# Altium schematic symbol library Lib_Global.SchLib: 32 symbols
Pins are listed as number, name and electrical type; pins without a type are passive.

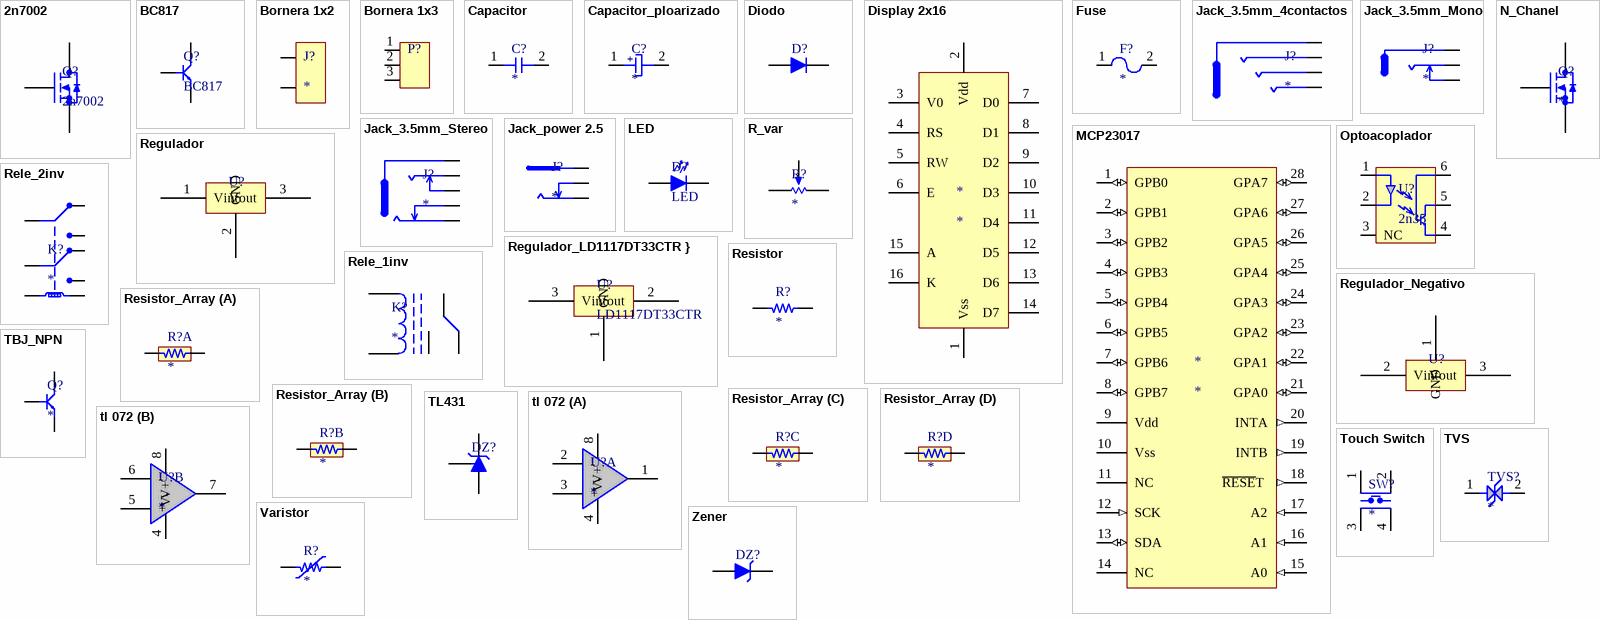
[diagram p0: symbols 2n7002 to Zener]

## 2n7002
designator Q?
footprint SOT-23
pins: 1 G, 2 S, 3 D

## BC817
designator Q?
footprint SOT-23
pins: 1 B, 2 E, 3 C

## Bornera 1x2
designator J?
footprint Bornera enchufable 1x2 90° P5.08mm
pins: 1, 2

## Bornera 1x3
designator P?
footprint Bornera enchufable 1x3 90° P5.08mm
pins: 1, 2, 3

## Capacitor
designator C?
footprint C_0805
footprint C_ceramico_R5.7_P4
footprint Capa_P5
pins: 1, 2

## Capacitor_ploarizado
designator C?
footprint Capa_Elec_D8.2_P3.2
footprint Capa_Elec_D5_P2
pins: 1, 2
text: +

## Diodo
designator D?
footprint MELF-SOD80C
pins: 1 A, 2 K

## Display 2x16
designator *
pins: 1 Vss, 2 Vdd, 3 V0, 4 RS, 5 RW, 6 E, 7 D0, 8 D1, 9 D2, 10 D3, 11 D4, 12 D5, 13 D6, 14 D7, 15 A, 16 K

## Fuse
designator F?
footprint Fuse_R8.3_P5.08
pins: 1, 2

## Jack_3.5mm_4contactos
designator J?
pins: 1, 2, 3, 4

## Jack_3.5mm_Mono
designator J?
pins: 1, 2, 3

## Jack_3.5mm_Stereo
designator J?
footprint Jack 3,5mm_Stereo
pins: 1, 2, 3, 4, 5

## Jack_power 2.5
designator J?
footprint Plug
pins: 1, 2, 3

## LED
designator D?
footprint LED_0805
pins: 1 A, 2 K

## MCP23017
designator *
pins: 1 GPB0 (io), 2 GPB1 (io), 3 GPB2 (io), 4 GPB3 (io), 5 GPB4 (io), 6 GPB5 (io), 7 GPB6 (io), 8 GPB7 (io), 9 Vdd (power), 10 Vss (power), 11 NC, 12 SCK (in), 13 SDA (io), 14 NC, 15 A0 (in), 16 A1 (in), 17 A2 (in), 18 ~{RESE}T  (out), 19 INTB (out), 20 INTA (out), 21 GPA0 (io), 22 GPA1 (io), 23 GPA2 (io), 24 GPA3 (io), 25 GPA4 (io), 26 GPA5 (io), 27 GPA6 (io), 28 GPA7 (io)

## N_Chanel
designator Q?
footprint TO-92
footprint SOT-23
pins: 1 S, 2 G, 3 D

## Optoacoplador
designator U?, comment 2n35
footprint dip6-smd
pins: 1, 2, 3 NC, 4, 5, 6

## R_var
designator R?
Resistor variable
pins: 1, 2, 3

## Regulador
designator U?
footprint SOT-223
footprint TO220
pins: 1 Vint, 2 GND, 3 Vout

## Regulador_LD1117DT33CTR }
designator U?, comment LD1117DT33CTR
footprint TO-252-3
pins: 1 GND, 2 Vout, 3 Vint

## Regulador_Negativo
designator U?
footprint SOT-223
footprint TO220
pins: 1 GND, 2 Vint, 3 Vout

## Rele_1inv
designator K?
footprint Rele_1inv_19*15*15.5
pins: 1, 2, 3, 4, 5

## Rele_2inv
designator K?
footprint Rele_2inv_10*20*11
pins: 1, 4 Com1, 6 NC1, 8 NO1, 9 NO2, 11 NC2, 13 Com2, 16

## Resistor
designator R?
footprint Res_P10_1/4W
footprint R_0805
footprint Resistencia P15.24mm
pins: 1, 2

## Resistor_Array
designator R?
part A pins: 1, 2
part B pins: 3, 4
part C pins: 5, 6
part D pins: 7, 8

## TBJ_NPN
designator Q?
footprint TO220_conDis
footprint TO220
footprint TO-92
pins: 1 E, 2 B, 3 C

## TL431
designator DZ?
footprint TO-92
pins: 1 Ref, 2 A, 3 K

## tl 072
designator U?
part A pins: 1, 2 -, 3 +, 4 V-, 8 V+
part B pins: 4 V-, 5 +, 6 -, 7, 8 V+

## Touch Switch
designator SW?
footprint Ts-smd4
footprint Touch Shitch
pins: 1, 2, 3, 4

## TVS
designator TVS?
pins: 1, 2

## Varistor
designator R?
footprint Varistor_D10
pins: 1, 2

## Zener
designator DZ?
footprint MELF-SOD80C
pins: 1 A, 2 K